# Altium schematic symbol library QFN68_DIP72_SMT_Schlib.SchLib: 3 symbols
Pins are listed as number, name and electrical type; pins without a type are passive.

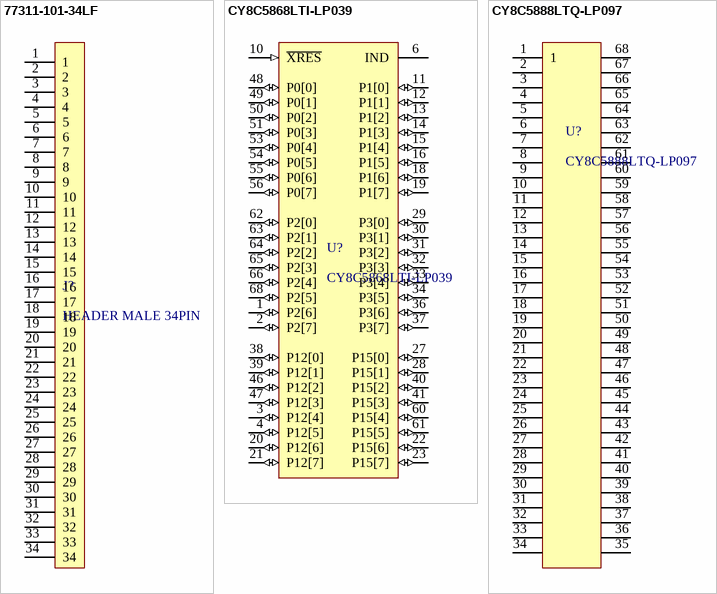
[diagram p0: symbols 77311-101-34LF to CY8C5888LTQ-LP097]

## 77311-101-34LF
designator J?, comment HEADER MALE 34PIN
Headers & Wire Housings 34P STR SR TMT HDR .76 AU .425IN LENGTH; Manufacturer: Amphenol ICC / FCI; Manufacturer Part Number: 77311-101-34LF; Number of Contacts: 34; Max Voltage Rating (AC): 1.5kV; Connector Type: Male Pin; Current Rating: 3A; Insulation Resistance: 5GR; Pitch: 2.54mm; Contact Post Length: 2.41mm; Supplier 1: Newark; RoHS: Yes; Category: Connectors; Pricing 1: 400=1,25000, 500=1,16000, 1000=1,02000 (USD); Mount: Through Hole; Contact Plating: Gold,GXT; Contact Material: Bronze; Color: Black; Housing Color: Black; Housing Material: Thermoplastic; Material: Thermoplastic; Min Operating Temperature: -65°C; Max Operating Temperature: 125°C; Number of Rows: 1; Termination: Solder; Packaging: Bulk; Package Quantity: 100; Number of Positions: 34; Orientation: Straight; Series: BERGSTIK®, MezzSelect™, Basics+; Contact Type: Male Pin; Voltage Rating: 1.5kV; Gender: Male; Contact Gender: Male; Length: 86.36mm; Depth: 2.4mm; Contact Mating Length: 0.23inch; Lead Free: Lead Free; REACH SVHC: No SVHC; Flammability Rating: UL94 V-0; ComponentLink1URL: https://datasheet.ciiva.com/8050/320503-8050396.pdf?src-supplier=Element14; ComponentLink1Description: https://datasheet.ciiva.com/8050/320503-8050396.pdf?src-supplier=Element14; ComponentLink2URL: https://datasheet.ciiva.com/10116/77311-10116809.pdf?src-supplier=Avnet; ComponentLink2Description: https://datasheet.ciiva.com/10116/77311-10116809.pdf?src-supplier=Avnet; ComponentLink3URL: https://datasheet.ciiva.com/16729/77311-16729755.pdf?src-supplier=Avnet+Europe; ComponentLink3Description: https://datasheet.ciiva.com/16729/77311-16729755.pdf?src-supplier=Avnet+Europe; ComponentLink4URL: https://datasheet.ciiva.com/722/77311-722458.pdf?src-supplier=Digi-Key; ComponentLink4Description: https://datasheet.ciiva.com/722/77311-722458.pdf?src-supplier=Digi-Key; Supplier Part Number 1: 62K8798
footprint HDR_MALE_1x4_2.54mm (HDR FEMALE 1x6 2.54mm)
pins: 1, 2, 3, 4, 5, 6, 7, 8, 9, 10, 11, 12, 13, 14, 15, 16, 17, 18, 19, 20, 21, 22, 23, 24, 25, 26, 27, 28, 29, 30, 31, 32, 33, 34

## CY8C5868LTI-LP039
designator U?
IC MCU 32BIT 256KB FLASH 68QFN; Manufacturer: Cypress; Core Architecture: ARM; Frequency: 67MHz; Interface: I2C,USB; RAM Size: 64KB; Number of I/Os: 48; Number of Timers/Counters: 4; Operating Supply Voltage: 1.8V; Max Supply Voltage: 5.5V; Min Supply Voltage: 1.71V; Number of ADC Channels: 2; Data Bus Width: 32b; Oscillator Type: Internal; Watchdog Timer: Yes; Peripherals: POR,PWM,WDT,DMA,LVD,I2C; Number of GPIO: 38; Supplier 1: RSComponents; Manufacturer Part Number: CY8C5868LTI-LP039; RoHS: Yes; Category: Microcontrollers; Stock 1: 68; Pricing 1: 25=16,47600, 100=15,13400, 500=12,92600 (USD); Case/Package: QFN; Number of Pins: 68; Contact Plating: Gold; Weight: 0.028572oz; Min Operating Temperature: -40°C; Max Operating Temperature: 85°C; Package Quantity: 260; Packaging: Rail/Tube; Number of Programmable I/O: 48; Max Frequency: 67MHz; Memory Type: FLASH; Memory Size: 256KB; Series: CY8C58LPxxx; Length: 8mm; Height: 1mm; Radiation Hardening: No; REACH SVHC: No SVHC; Lead Free: Lead Free; RoHS Compliant: Yes; ComponentLink1URL: https://datasheet.ciiva.com/8072/1693878-8072027.pdf?src-supplier=Element14; ComponentLink1Description: https://datasheet.ciiva.com/8072/1693878-8072027.pdf?src-supplier=Element14; ComponentLink2URL: https://datasheet.ciiva.com/6645/001-84932-0i-v-6645005.pdf?src-supplier=Digi-Key; ComponentLink2Description: https://datasheet.ciiva.com/6645/001-84932-0i-v-6645005.pdf?src-supplier=Digi-Key; Supplier Part Number 1: 1242970P
footprint CYP-LTX68_L (QFN, 68-Leads, Body 8x8mm, Pitch 0.4mm, Thermal Pad 5.7x5.7mm, IPC High Density)
pins: 1 P2[6] (io), 2 P2[7] (io), 3 P12[4] (io), 4 P12[5] (io), 6 IND "Inductor connection to boost pump.", 10 ~{XRES} (in) "External reset pin. Active low with internal pull-up", 11 P1[0] (io), 12 P1[1] (io), 13 P1[2] (io), 14 P1[3] (io), 15 P1[4] (io), 16 P1[5] (io), 18 P1[6] (io), 19 P1[7] (io), 20 P12[6] (io), 21 P12[7] (io), 22 P15[6] (io), 23 P15[7] (io), 27 P15[0] (io), 28 P15[1] (io), 29 P3[0] (io), 30 P3[1] (io), 31 P3[2] (io), 32 P3[3] (io), 33 P3[4] (io), 34 P3[5] (io), 36 P3[6] (io), 37 P3[7] (io), 38 P12[0] (io), 39 P12[1] (io), 40 P15[2] (io), 41 P15[3] (io), 46 P12[2] (io), 47 P12[3] (io), 48 P0[0] (io), 49 P0[1] (io), 50 P0[2] (io), 51 P0[3] (io), 53 P0[4] (io), 54 P0[5] (io), 55 P0[6] (io), 56 P0[7] (io), 60 P15[4] (io), 61 P15[5] (io), 62 P2[0] (io), 63 P2[1] (io), 64 P2[2] (io), 65 P2[3] (io), 66 P2[4] (io), 68 P2[5] (io)

## CY8C5888LTQ-LP097
designator U?
MCU 32-bit ARM Cortex M3 RISC 256KB Flash 1.8V/3.3V/5V 68-Pin QFN EP Tray; Manufacturer: Cypress; Interface: I2C,SPI,USB,UART,USART; Peripherals: POR,PWM,WDT,DMA,LCD,CapSense; Frequency: 80MHz; Number of I/Os: 38; Oscillator Type: Internal; Supplier 1: Digi-Key; Manufacturer Part Number: CY8C5888LTQ-LP097; RoHS: Yes; Category: Microcontrollers; Stock 1: 85; Pricing 1: 1=25,00000, 10=23,12600, 25=21,25080, 80=19,75075, 260=18,12573, 520=17,25069 (USD); Case/Package: QFN; Min Operating Temperature: -40°C; Max Operating Temperature: 105°C; Memory Type: FLASH; Packaging: Tray; Core Architecture: ARM; Memory Size: 256KB; RoHS Compliant: Yes; ComponentLink1URL: http://www.farnell.com/datasheets/2343841.pdf?src-supplier=Farnell; ComponentLink1Description: http://www.farnell.com/datasheets/2343841.pdf?src-supplier=Farnell; ComponentLink2URL: http://www.mouser.com/ds/2/100/001-84932_PSoC_5LP_CY8C58LP_Family_Datasheet_Progr-1078031.pdf?src-supplier=Mouser; ComponentLink2Description: http://www.mouser.com/ds/2/100/001-84932_PSoC_5LP_CY8C58LP_Family_Datasheet_Progr-1078031.pdf?src-supplier=Mouser; ComponentLink3URL: http://www.cypress.com/?docID=49437&src-supplier=Digi-Key; ComponentLink3Description: http://www.cypress.com/?docID=49437&src-supplier=Digi-Key; Supplier Part Number 1: CY8C5888LTQ-LP097-ND
footprint CYP-LTX68_L (QFN, 68-Leads, Body 8x8mm, Pitch 0.4mm, Thermal Pad 5.7x5.7mm, IPC High Density)
pins: 1, 2, 3, 4, 5, 6, 7, 8, 9, 10, 11, 12, 13, 14, 15, 16, 17, 18, 19, 20, 21, 22, 23, 24, 25, 26, 27, 28, 29, 30, 31, 32, 33, 34, 35, 36, 37, 38, 39, 40, 41, 42, 43, 44, 45, 46, 47, 48, 49, 50, 51, 52, 53, 54, 55, 56, 57, 58, 59, 60, 61, 62, 63, 64, 65, 66, 67, 68